# EAGLE library part ISM330DHCX (library Bits_library_eagle)
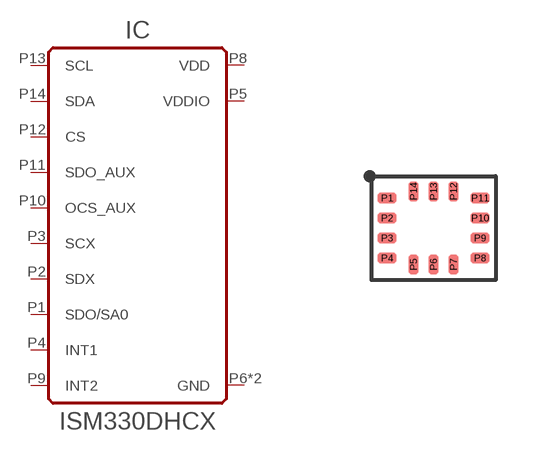
[diagram p43: symbol with the pads of LGA-14L; footprint LGA-14L]

Designator prefix IC

## ISM330DHCX  [LGA-14L]
P1  SDO/SA0
P2  SDX
P3  SCX
P4  INT1
P5  VDDIO  pwr
P6  GND  pwr
P7  GND  pwr
P8  VDD  pwr
P9  INT2
P10  OCS_AUX
P11  SDO_AUX
P12  CS
P13  SCL
P14  SDA

## Footprint LGA-14L (pad centres in mm)
smd 0.475 x 0.25: P1 -1.163,0.75; P2 -1.163,0.25; P3 -1.163,-0.25; P4 -1.163,-0.75; P8 1.163,-0.75; P9 1.163,-0.25; P10 1.163,0.25; P11 1.163,0.75
smd 0.25 x 0.475: P5 -0.5,-0.912; P6 0,-0.912; P7 0.5,-0.912; P12 0.5,0.912; P13 0,0.912; P14 -0.5,0.912